# Altium footprint library POWER.PcbLib: 1 footprints
Each footprint in its own frame and in the unit in brackets; x right, y up, seen from the top. Pads: shape width x height; smd on the part's side, far side on the other; paste and mask are expansions set on the pad; w line width, h text height; cw(c..) or ccw(c..) is an arc to the next point about the centre after c.
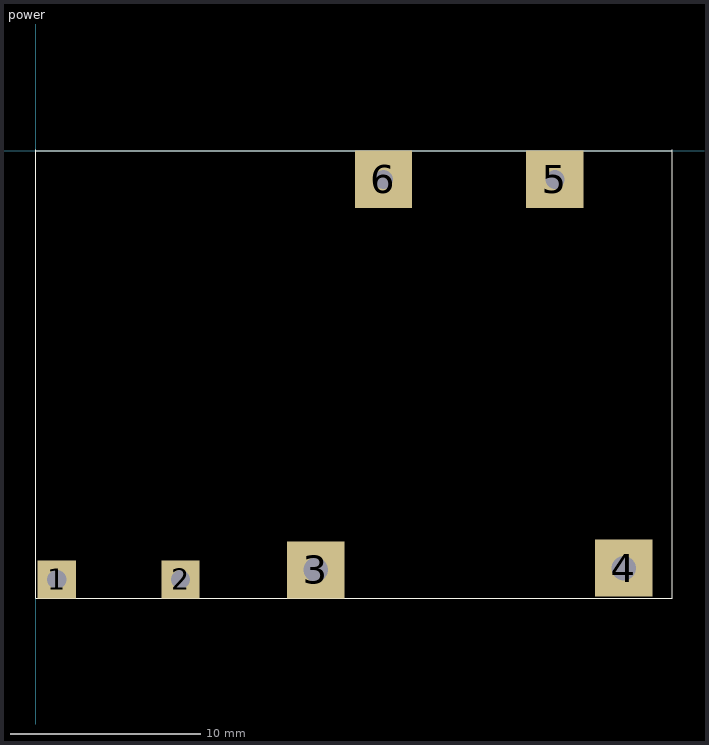
[diagram p0: the footprint, top view; thin cyan lines are the x and y axes]

## power [mm]
pads (6):
  rect 2x2 hole 1: 1(1.1,-22.5) 2(7.6,-22.5)
  rect 3x3 hole 1.3: 3(14.69,-22) 4(30.86,-21.91)
  rect 3x3 hole 1: 5(27.24,-1.5) 6(18.24,-1.5)
Top Overlay:
  lines w0.01: 0,0 33.4,0 ; 0,0.06 0,-23.5 33.4,-23.5 33.4,0.06 ; 28.4,-1.5 28.4,0